# Altium schematic symbol library Schlib1.SchLib: 30 symbols
Pins are listed as number, name and electrical type; pins without a type are passive.

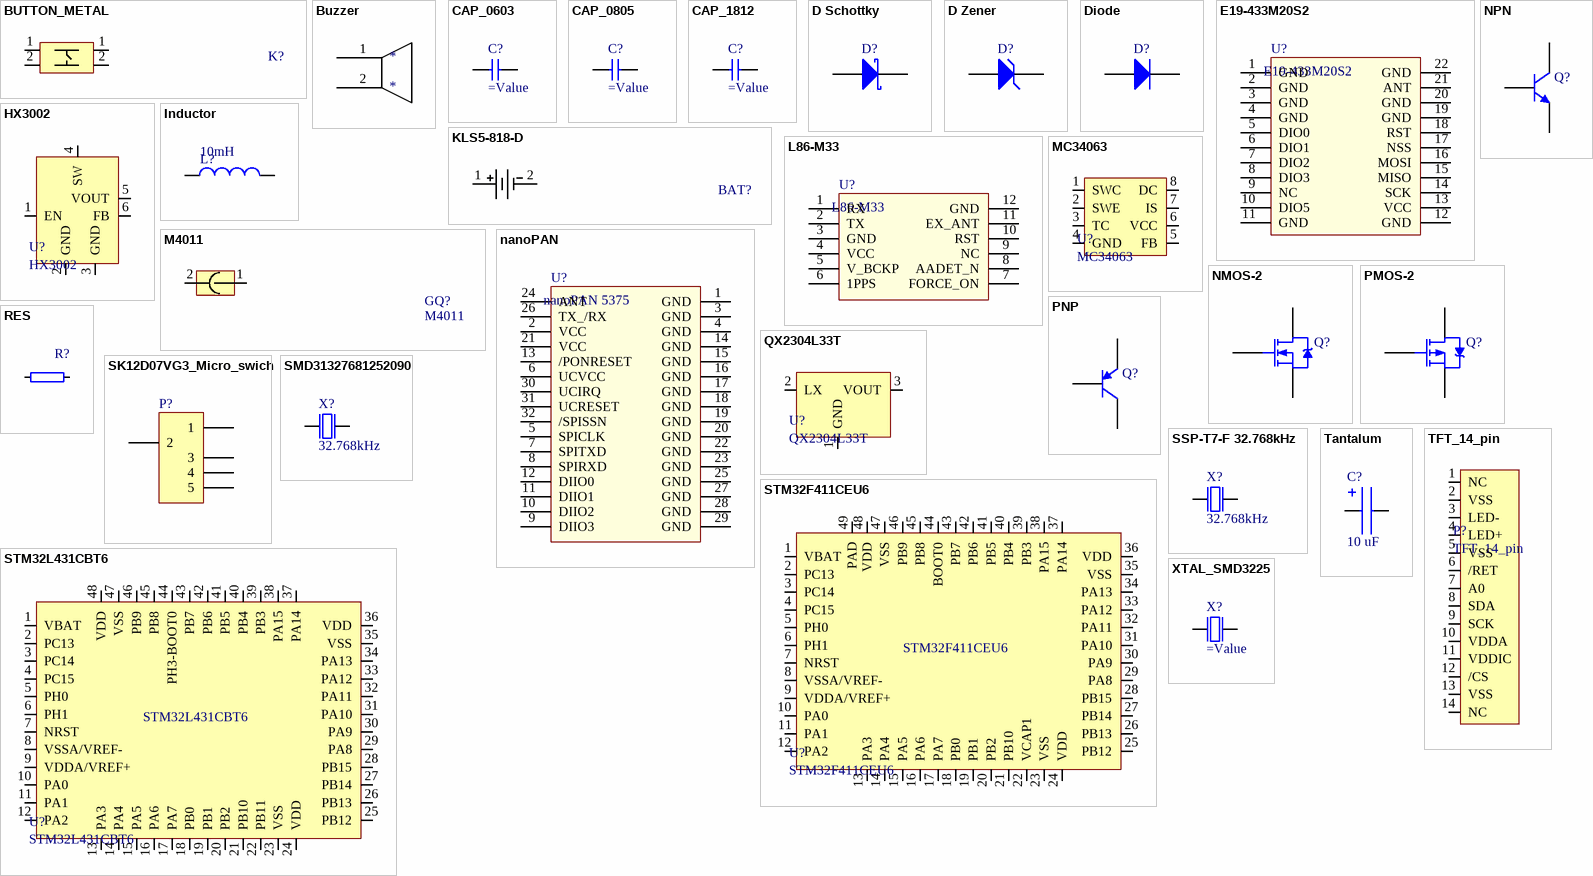
[diagram p0: symbols BUTTON_METAL to XTAL_SMD3225]

## BUTTON_METAL
designator K?
footprint button_metal
footprint button_plastic
pins: 1, 1, 2, 2

## Buzzer
designator *
footprint Buzzer_PKM13EPYH4000-A0
footprint BUZZER_KLJ-7525-3627 (SMD 7.5*7.5*2.5mm)
pins: 1, 2

## CAP_0603
designator C?
Capacitor, X5R, ±10%
footprint CAP(0603)
pins: 1, 2

## CAP_0805
designator C?
Capacitor, X5R, ±10%
footprint CAP(0805)
pins: 1, 2

## CAP_1812
designator C?
Capacitor, X7R, ±10%
footprint CAP(1812)
pins: 1, 2

## D Schottky
designator D?
Schottky Diode
footprint DFN0603-D
pins: 1 K, 2 A

## D Zener
designator D?
Zener Diode
footprint SOT-23B (SOT-23; 3 Leads; Body 3.0 x 2.6 mm, inc. leads (LxW max))
pins: 1 A, 3 K

## Diode
designator D?
Default Diode
footprint SMA(DO-214AC)
pins: 1 K, 2 A

## E19-433M20S2
designator U?
footprint E19-433M20S2 (22-Leads, Body 15,00x15,00mm, Pitch 1,27mm)
pins: 1 GND, 2 GND, 3 GND, 4 GND, 5 DIO0, 6 DIO1, 7 DIO2, 8 DIO3, 9 NC, 10 DIO5, 11 GND, 12 GND, 13 VCC, 14 SCK, 15 MISO, 16 MOSI, 17 NSS, 18 RST, 19 GND, 20 GND, 21 ANT, 22 GND

## HX3002
designator U?
HEXIN HX3002; ComponentLink1Description: HEXIN HX3002; ComponentLink1URL: https://lcsc.com/product-detail/DC-DC-Converters_HX3002_C172353.html
footprint SOT23-6
pins: 1 EN, 2 GND, 3 GND, 4 SW, 5 VOUT, 6 FB

## Inductor
designator L?  value 10mH
Inductor
footprint CKCS4030 (Chip Inductor, Body 4.0x4.0x3.0mm)
footprint SMNR8040-681MT (Chip Inductor, Body 8.0x8.0x4.0mm)
footprint RES(0603) (Res 0603)
pins: 1, 2

## KLS5-818-D
designator BAT?  (value not drawn)
KLS5-818-D (FC1-5143)
footprint KLS5-818-D (FC1-5143) (2хААА case from board (size 50x23.3x12))
pins: 1, 2

## L86-M33
designator U?
footprint L86-M33
pins: 1 RX, 2 TX, 3 GND, 4 VCC, 5 V_BCKP, 6 1PPS, 7 FORCE_ON, 8 AADET_N, 9 NC, 10 RST, 11 EX_ANT, 12 GND

## M4011
designator GQ?
Geiger counter
footprint M4011
pins: 1, 2

## MC34063
designator U?
HGSEMI MC34063M/TR; ComponentLink1Description: HGSEMI MC34063M/TR; ComponentLink1URL: https://lcsc.com/product-detail/DC-DC-Converters_HGSEMI-MC34063M-TR_C234207.html
footprint SOP-8 (SOP, 8-Leads, Body 4,90x3,90mm, Pitch 1,27mm, IPC Medium Density)
pins: 1 SWC, 2 SWE, 3 TC, 4 GND, 5 FB, 6 VCC, 7 IS, 8 DC

## nanoPAN
designator U?, comment nanoPAN 5375
footprint nanoPAN_fp
pins: 1 GND, 2 VCC, 3 GND, 4 GND, 5 SPICLK, 6 UCVCC, 7 SPITXD, 8 SPIRXD, 9 DIIO3, 10 DIIO2, 11 DIIO1, 12 DIIO0, 13 /PONRESET, 14 GND, 15 GND, 16 GND, 17 GND, 18 GND, 19 GND, 20 GND, 21 VCC, 22 GND, 23 GND, 24 ANT, 25 GND, 26 TX_/RX, 27 GND, 28 GND, 29 GND, 30 UCIRQ, 31 UCRESET, 32 /SPISSN

## NMOS-2
designator Q?
N-Channel Power MOSFET
footprint SOT-23B - mofset (SOT-23; 3 Leads; Body 3.0 x 2.6 mm, inc. leads (LxW max))
pins: 1 G, 2 S, 3 D

## NPN
designator Q?
NPN General Purpose Amplifier
footprint SOT-23B (SOT-23; 3 Leads; Body 3.0 x 2.6 mm, inc. leads (LxW max))
pins: 1 B, 2 E, 3 C

## PMOS-2
designator Q?
P-Channel Power MOSFET
footprint SOT-23B - mofset (SOT-23; 3 Leads; Body 3.0 x 2.6 mm, inc. leads (LxW max))
pins: 1 G, 2 S, 3 D

## PNP
designator Q?
PNP General Purpose Amplifier
footprint SOT-23B (SOT-23; 3 Leads; Body 3.0 x 2.6 mm, inc. leads (LxW max))
pins: 1 B, 2 E, 3 C

## QX2304L33T
designator U?
QX Micro Devices QX2304L33T; ComponentLink1Description: QX Micro Devices QX2304L33T; ComponentLink1URL: https://lcsc.com/product-detail/Others_QX-Micro-Devices-QX2304L33T_C219038.html
footprint SOT-23B (SOT-23; 3 Leads; Body 3.0 x 2.6 mm, inc. leads (LxW max))
pins: 1 GND, 2 LX, 3 VOUT

## RES
designator R?
Chip Resistor
footprint RES(0603) (Res 0603)
footprint RES(2512) (Res 2512)
pins: 1, 2

## SK12D07VG3_Micro_swich
designator P?
Header, 5-Pin; LatestRevisionDate: 17-Jul-2002; LatestRevisionNote: Re-released for DXP Platform.; Publisher: Altium Limited
footprint SK12D07VG3_Micro_swich (4.5*8.6)
pins: 1, 2, 3, 4, 5

## SMD31327681252090
designator X?, comment 32.768kHz
ComponentLink1Description: SMD31327681252090; ComponentLink1URL: https://lcsc.com/product-detail/SMD-Crystal-Resonators_JGHC-SMD31327681252090_C390740.html
footprint SMD-3215-2P
pins: 1 inp, 2 out

## SSP-T7-F 32.768kHz
designator X?, comment 32.768kHz
Seiko SSP-T7-F 32.768kHz 20PPM12.5pF; ComponentLink1Description: Seiko SSP-T7-F 32.768kHz 20PPM12.5pF; ComponentLink1URL: https://lcsc.com/product-detail/SMD-Crystal-Resonators_Seiko_SSP-T7-F-32-768kHz-20PPM12-5p_Seiko-SSP-T7-F-32-768kHz-20PPM12-5p_C108687.html
footprint MC-146(SMD-7015_4P)
pins: 1 inp, 4 out

## STM32F411CEU6
designator U?
ComponentLink1Description: STM32F411CEU6; ComponentLink1URL: https://lcsc.com/product-detail/ST-Microelectronics_STMicroelectronics_STM32F411CEU6_STM32F411CEU6_C60420.html
footprint UFQFPN48 (UFQFPN48, 7 x 7 mm, 0.5 mm)
pins: 1 VBAT, 2 PC13, 3 PC14, 4 PC15, 5 PH0, 6 PH1, 7 NRST, 8 VSSA/VREF-, 9 VDDA/VREF+, 10 PA0, 11 PA1, 12 PA2, 13 PA3, 14 PA4, 15 PA5, 16 PA6, 17 PA7, 18 PB0, 19 PB1, 20 PB2, 21 PB10, 22 VCAP1, 23 VSS, 24 VDD, 25 PB12, 26 PB13, 27 PB14, 28 PB15, 29 PA8, 30 PA9, 31 PA10, 32 PA11, 33 PA12, 34 PA13, 35 VSS, 36 VDD, 37 PA14, 38 PA15, 39 PB3, 40 PB4, 41 PB5, 42 PB6, 43 PB7, 44 BOOT0, 45 PB8, 46 PB9, 47 VSS, 48 VDD, 49 PAD

## STM32L431CBT6
designator U?
ComponentLink1Description: STM32L431CBT6; ComponentLink1URL: https://lcsc.com/product-detail/Others_STMicroelectronics_STM32L431CBT6_STMicroelectronics-STM32L431CBT6_C277951.html
footprint TSQFP50P900X900X150-48N (TSQFP, 48-Leads, Body 7,00x7,00mm, Pitch 0,50mm, IPC Medium Density)
pins: 1 VBAT, 2 PC13, 3 PC14, 4 PC15, 5 PH0, 6 PH1, 7 NRST, 8 VSSA/VREF-, 9 VDDA/VREF+, 10 PA0, 11 PA1, 12 PA2, 13 PA3, 14 PA4, 15 PA5, 16 PA6, 17 PA7, 18 PB0, 19 PB1, 20 PB2, 21 PB10, 22 PB11, 23 VSS, 24 VDD, 25 PB12, 26 PB13, 27 PB14, 28 PB15, 29 PA8, 30 PA9, 31 PA10, 32 PA11, 33 PA12, 34 PA13, 35 VSS, 36 VDD, 37 PA14, 38 PA15, 39 PB3, 40 PB4, 41 PB5, 42 PB6, 43 PB7, 44 PH3-BOOT0, 45 PB8, 46 PB9, 47 VSS, 48 VDD

## Tantalum
designator C?, comment 10 uF
Tantalum SMD capacitor
footprint CC3528
footprint CC3216(1206)x18
pins: 1, 2

## TFT_14_pin
designator P?
footprint tft (14pin, 0.4w)
pins: 1 NC, 2 VSS, 3 LED-, 4 LED+, 5 VSS, 6 /RET, 7 A0, 8 SDA, 9 SCK, 10 VDDA, 11 VDDIC, 12 /CS, 13 VSS, 14 NC

## XTAL_SMD3225
designator X?
footprint SMD3225 (DFN, 4-Leads, Body 2,50x3,20mm, Pitch 2,10mm, IPC Medium Density)
pins: 1 inp, 2 GND hidden to GND, 3 out, 4 GND hidden to GND